# EAGLE library part TUSB8040A (library tusb8040a)
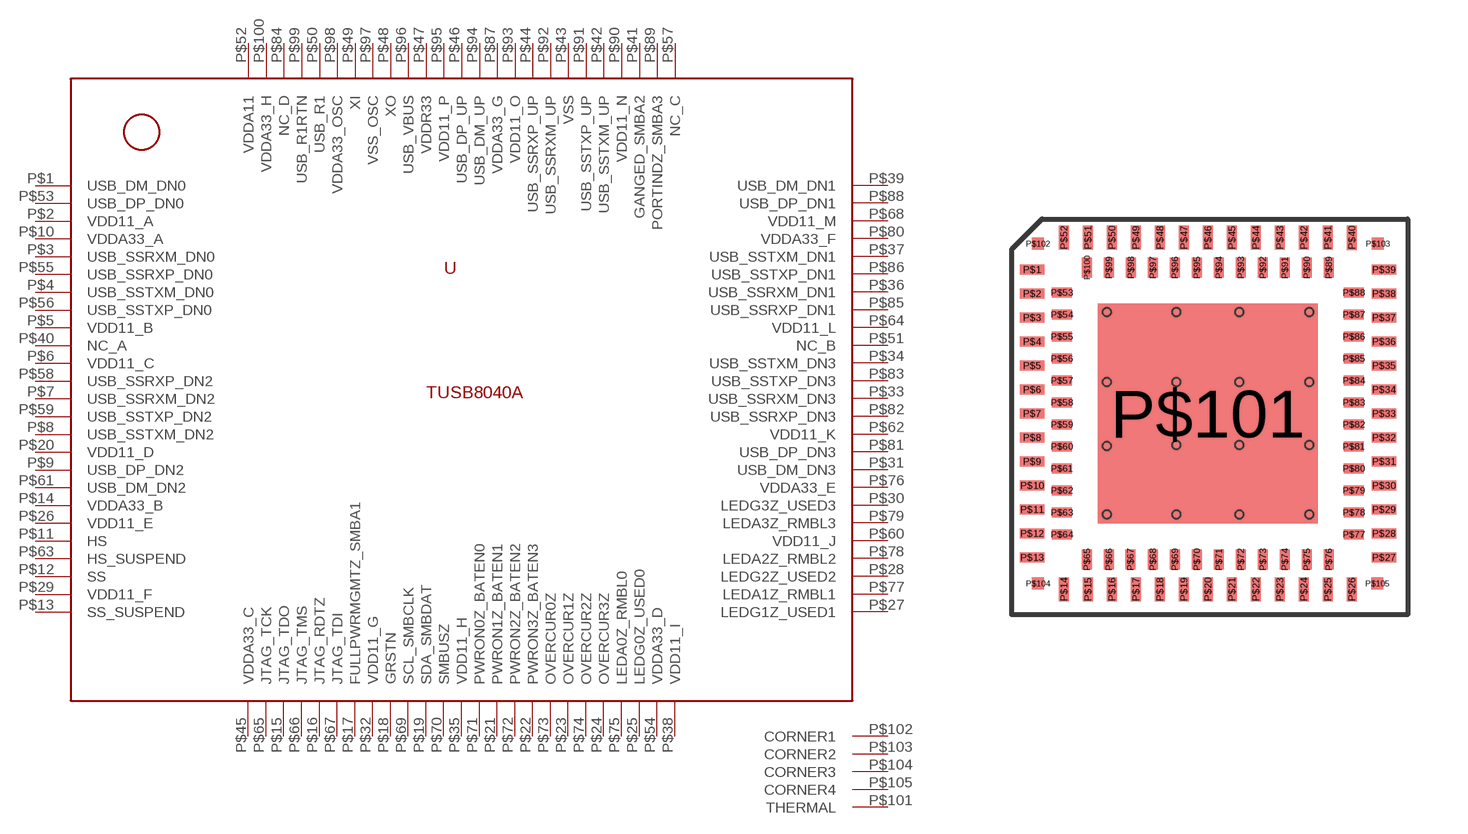
[diagram p0: symbol with the pads of 100-WQFN; footprint 100-WQFN]

Designator prefix -

## TUSB8040A  [100-WQFN]
P$1  USB_DM_DN0
P$2  VDD11_A
P$3  USB_SSRXM_DN0
P$4  USB_SSTXM_DN0
P$5  VDD11_B
P$6  VDD11_C
P$7  USB_SSRXM_DN2
P$8  USB_SSTXM_DN2
P$9  USB_DP_DN2
P$10  VDDA33_A
P$11  HS
P$12  SS
P$13  SS_SUSPEND
P$14  VDDA33_B
P$15  JTAG_TDO
P$16  JTAG_RDTZ
P$17  FULLPWRMGMTZ_SMBA1
P$18  GRSTN
P$19  SDA_SMBDAT
P$20  VDD11_D
P$21  PWRON1Z_BATEN1
P$22  PWRON3Z_BATEN3
P$23  OVERCUR1Z
P$24  OVERCUR3Z
P$25  LEDG0Z_USED0
P$26  VDD11_E
P$27  LEDG1Z_USED1
P$28  LEDG2Z_USED2
P$29  VDD11_F
P$30  LEDG3Z_USED3
P$31  USB_DM_DN3
P$32  VDD11_G
P$33  USB_SSRXM_DN3
P$34  USB_SSTXM_DN3
P$35  VDD11_H
P$36  USB_SSRXM_DN1
P$37  USB_SSTXM_DN1
P$38  VDD11_I
P$39  USB_DM_DN1
P$40  NC_A
P$41  GANGED_SMBA2
P$42  USB_SSTXM_UP
P$43  VSS
P$44  USB_SSRXP_UP
P$45  VDDA33_C
P$46  USB_DP_UP
P$47  VDDR33
P$48  XO
P$49  XI
P$50  USB_R1
P$51  NC_B
P$52  VDDA11
P$53  USB_DP_DN0
P$54  VDDA33_D
P$55  USB_SSRXP_DN0
P$56  USB_SSTXP_DN0
P$57  NC_C
P$58  USB_SSRXP_DN2
P$59  USB_SSTXP_DN2
P$60  VDD11_J
P$61  USB_DM_DN2
P$62  VDD11_K
P$63  HS_SUSPEND
P$64  VDD11_L
P$65  JTAG_TCK
P$66  JTAG_TMS
P$67  JTAG_TDI
P$68  VDD11_M
P$69  SCL_SMBCLK
P$70  SMBUSZ
P$71  PWRON0Z_BATEN0
P$72  PWRON2Z_BATEN2
P$73  OVERCUR0Z
P$74  OVERCUR2Z
P$75  LEDA0Z_RMBL0
P$76  VDDA33_E
P$77  LEDA1Z_RMBL1
P$78  LEDA2Z_RMBL2
P$79  LEDA3Z_RMBL3
P$80  VDDA33_F
P$81  USB_DP_DN3
P$82  USB_SSRXP_DN3
P$83  USB_SSTXP_DN3
P$84  NC_D
P$85  USB_SSRXP_DN1
P$86  USB_SSTXP_DN1
P$87  VDDA33_G
P$88  USB_DP_DN1
P$89  PORTINDZ_SMBA3
P$90  VDD11_N
P$91  USB_SSTXP_UP
P$92  USB_SSRXM_UP
P$93  VDD11_O
P$94  USB_DM_UP
P$95  VDD11_P
P$96  USB_VBUS
P$97  VSS_OSC
P$98  VDDA33_OSC
P$99  USB_R1RTN
P$100  VDDA33_H
P$101  THERMAL
P$102  CORNER1
P$103  CORNER2
P$104  CORNER3
P$105  CORNER4

## Footprint 100-WQFN (pad centres in mm)
smd 0.61 x 0.254: P$1 0,0; P$2 0,-0.6; P$3 0,-1.2; P$4 0,-1.8; P$5 0,-2.4; P$6 0,-3; P$7 0,-3.6; P$8 0,-4.2; P$9 0,-4.8; P$10 0,-5.4; P$11 0,-6; P$12 0,-6.6; P$13 0,-7.2; P$27 8.8,-7.2; P$28 8.8,-6.6; P$29 8.8,-6; P$30 8.8,-5.4; P$31 8.8,-4.8; P$32 8.8,-4.2; P$33 8.8,-3.6; P$34 8.8,-3; P$35 8.8,-2.4; P$36 8.8,-1.8; P$37 8.8,-1.2; P$38 8.8,-0.6; P$39 8.8,0
smd 0.254 x 0.61: P$14 0.8,-8; P$15 1.4,-8; P$16 2,-8; P$17 2.6,-8; P$18 3.2,-8; P$19 3.8,-8; P$20 4.401,-8; P$21 5,-8; P$22 5.6,-8; P$23 6.2,-8; P$24 6.8,-8; P$25 7.4,-8; P$26 8,-8; P$40 8,0.8; P$41 7.4,0.8; P$42 6.8,0.8; P$43 6.2,0.8; P$44 5.6,0.8; P$45 5,0.8; P$46 4.4,0.8; P$47 3.8,0.8; P$48 3.2,0.8; P$49 2.6,0.8; P$50 2,0.8; P$51 1.4,0.8; P$52 0.8,0.8
smd 0.508 x 0.254: P$53 0.75,-0.575; P$54 0.75,-1.125; P$55 0.75,-1.675; P$56 0.75,-2.225; P$57 0.75,-2.775; P$58 0.75,-3.325; P$59 0.75,-3.875; P$60 0.75,-4.425; P$61 0.75,-4.975; P$62 0.75,-5.525; P$63 0.75,-6.075; P$64 0.75,-6.625; P$77 8.05,-6.625; P$78 8.05,-6.075; P$79 8.05,-5.525; P$80 8.05,-4.975; P$81 8.05,-4.425; P$82 8.05,-3.875; P$83 8.05,-3.325; P$84 8.05,-2.775; P$85 8.05,-2.225; P$86 8.05,-1.675; P$87 8.05,-1.125; P$88 8.05,-0.575
smd 0.254 x 0.508: P$65 1.375,-7.25; P$66 1.925,-7.25; P$67 2.464,-7.25; P$68 3.025,-7.25; P$69 3.575,-7.25; P$70 4.125,-7.25; P$71 4.675,-7.25; P$72 5.225,-7.25; P$73 5.775,-7.25; P$74 6.325,-7.25; P$75 6.875,-7.25; P$76 7.425,-7.25; P$89 7.425,0.05; P$90 6.875,0.05; P$91 6.325,0.05; P$92 5.775,0.05; P$93 5.225,0.05; P$94 4.675,0.05; P$95 4.125,0.05; P$96 3.575,0.05; P$97 3.025,0.05; P$98 2.475,0.05; P$99 1.925,0.05; P$100 1.375,0.05
smd 5.5 x 5.5: P$101 4.4,-3.6
smd 0.305 x 0.305: P$102 0.15,0.65; P$103 8.65,0.65; P$104 0.15,-7.85; P$105 8.637,-7.85
hole 0.2 at 1.87,-1.067
hole 0.2 at 5.19,-1.067
hole 0.2 at 3.61,-1.067
hole 0.2 at 6.93,-1.067
hole 0.2 at 1.87,-2.807
hole 0.2 at 3.61,-2.807
hole 0.2 at 5.19,-2.807
hole 0.2 at 6.93,-2.807
hole 0.2 at 1.87,-4.413
hole 0.2 at 3.61,-4.387
hole 0.2 at 5.19,-4.387
hole 0.2 at 6.93,-4.387
hole 0.2 at 1.87,-6.127
hole 0.2 at 3.61,-6.127
hole 0.2 at 5.19,-6.127
hole 0.2 at 6.93,-6.127